# EAGLE library part WE-TRANSISTOR_BSS138PS (library BME280-Breakout_v10)
BSS138 Dual N-Channel MOSFET (UGS +/-20V, RDS 1Ohm, ID 320mA)
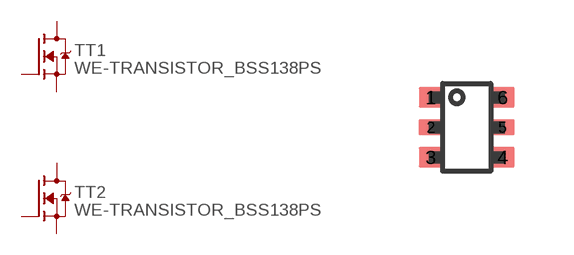
[diagram p2: symbol with the pads of WE-TRANSISTOR_SOT363; footprint WE-TRANSISTOR_SOT363]

Designator prefix T; gates T1=WE-TRANSISTOR_MOSFET_N-CHN T2=WE-TRANSISTOR_MOSFET_N-CHN

## WE-TRANSISTOR_BSS138PS  [WE-TRANSISTOR_SOT363]
1  T1:S  pas
2  T1:G  pas
3  T2:D  pas
4  T2:S  pas
5  T2:G  pas
6  T1:D  pas

## Footprint WE-TRANSISTOR_SOT363 (pad centres in mm)
smd 0.6 x 0.5: 1 -0.9,0.75; 3 -0.9,-0.75; 4 0.9,-0.75; 6 0.9,0.75
smd 0.6 x 0.4: 2 -0.9,0; 5 0.9,0